# Altium footprint library PAL.PcbLib: 183 footprints (part 3 of 12)
Each footprint in its own frame and in the unit in brackets; x right, y up, seen from the top. Pads: shape width x height; smd on the part's side, far side on the other; paste and mask are expansions set on the pad; w line width, h text height; cw(c..) or ccw(c..) is an arc to the next point about the centre after c.
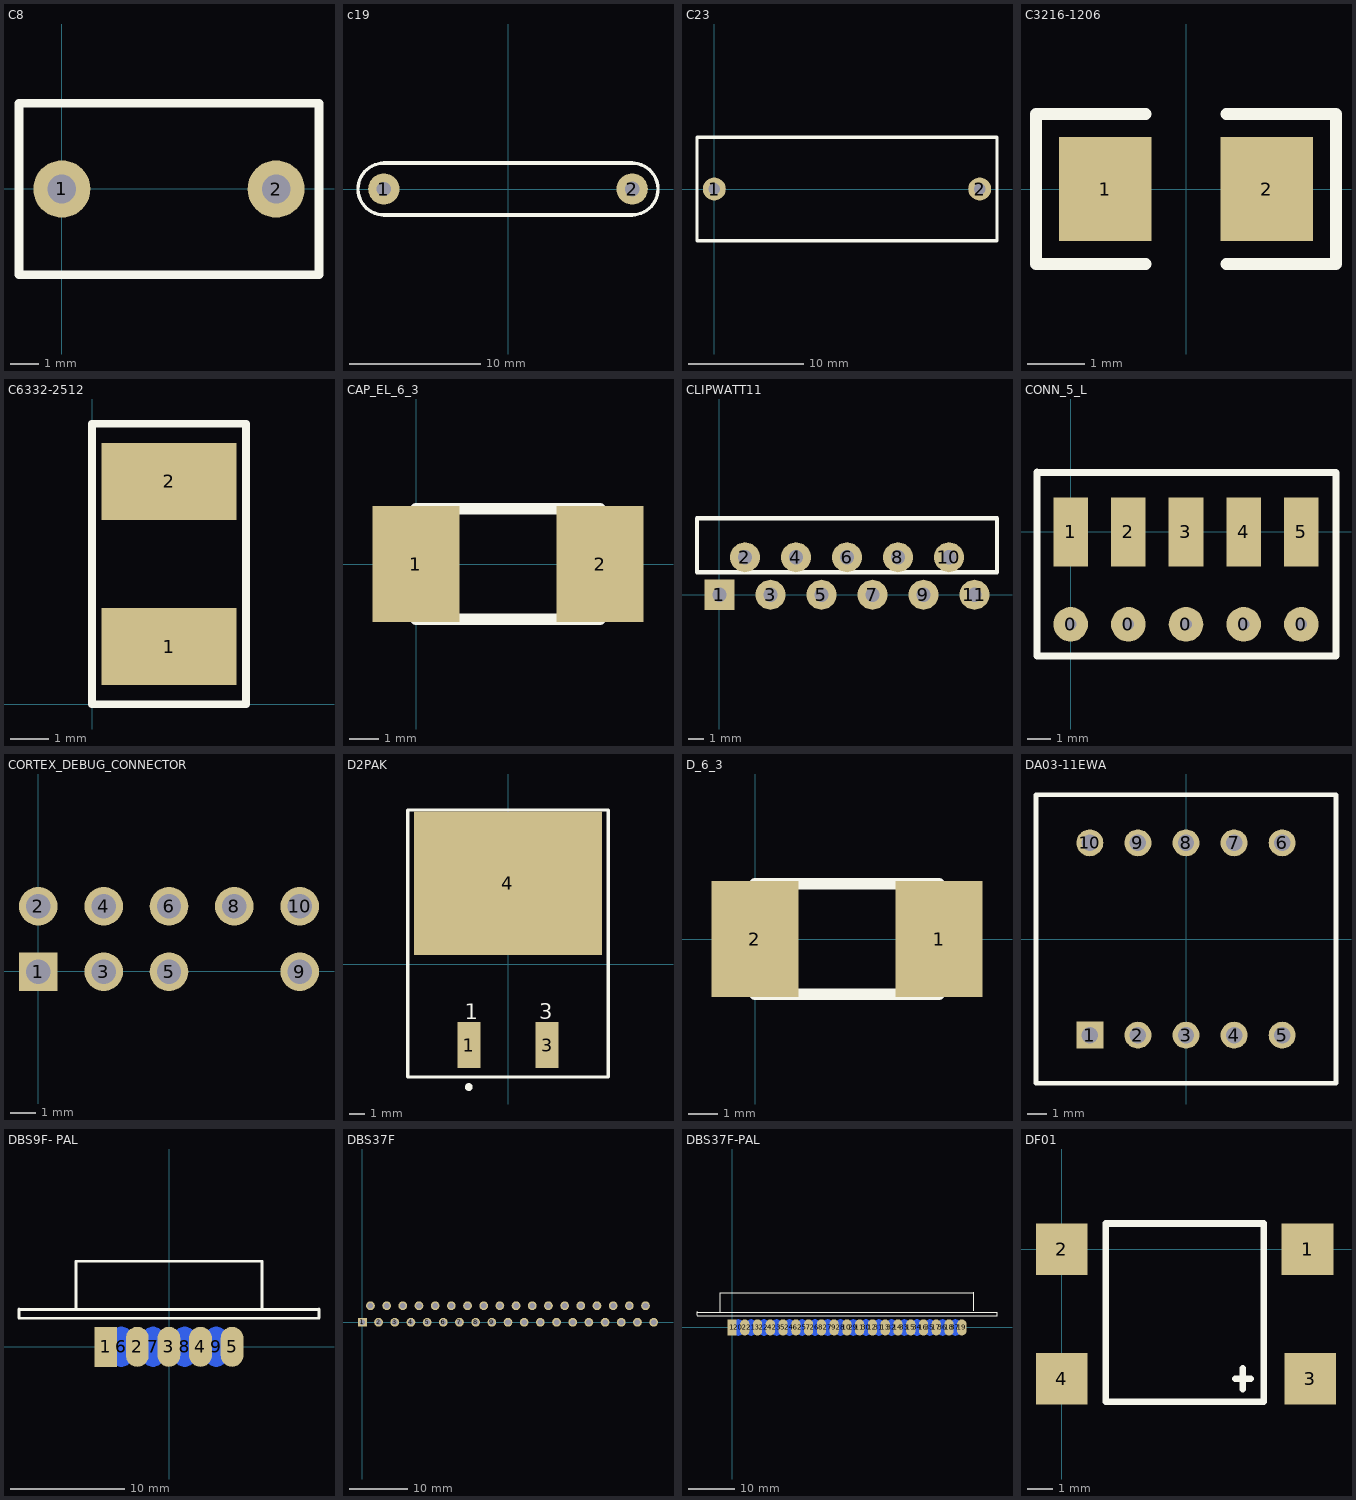
[diagram p2: the footprints below, top view; thin cyan lines are the x and y axes]

## C8 [mm]
pads (2):
  round 2 hole 1: 1(-0.002,-0.008) 2(7.498,-0.008)
Top Overlay:
  lines w0.3: -1.502,-3.008 8.998,-3.008 8.998,2.992 -1.502,2.992 -1.502,-3.008

## c19 [mm]
pads (2):
  round 2.4 hole 1.1: 1(-9.5,0)
  round 2.4 hole 1.11: 2(9.5,0)
Top Overlay:
  lines w0.254: -9.5,1.978 ccw(c-9.5,0) -9.475,-1.977 ; 9.475,1.977 cw(c9.5,0) 9.5,-1.978
  lines w0.3: -9.5,-2 9.5,-2 ; -9.5,2 9.5,2

## C23 [mm]
pads (2):
  round 2 hole 1: 1(0,0) 2(23,0)
Top Overlay:
  lines w0.3: -1.5,-4.5 -1.5,4.5 24.5,4.5 24.5,-4.5 -1.5,-4.5

## C3216-1206 [mm]
pads (2):
  rect 1.6x1.8 smd: 1(-1.405,0.002) 2(1.395,0.002)
Top Overlay:
  lines w0.2: -0.705,-1.298 -2.605,-1.298 -2.605,1.302 -0.705,1.302 ; 0.695,-1.298 2.595,-1.298 2.595,1.302 0.695,1.302

## C6332-2512 [mm]
pads (2):
  rect 3.5x2 smd: 1(2,1.5) 2(2,5.8)
Top Overlay:
  lines w0.2: 0,0 4,0 4,7.3 0,7.3 0,0

## CAP_EL_6_3 [mm]
pads (2):
  rect 3x4 smd: 1(-0.011,0.006) 2(6.339,0.006)
Top Overlay:
  lines w0.4: 1.259,-1.899 1.259,1.911 ; -0.011,-1.899 -0.011,0.006 -0.011,1.911 6.339,1.911 6.339,-1.899 -0.011,-1.899

## CLIPWATT11 [mm]
pads (11):
  rect 2x2 hole 0.95: 1(0.022,-0.004)
  round 2 hole 0.95: 2(1.722,2.496) 3(3.422,-0.004) 4(5.122,2.496) 5(6.822,-0.004) 6(8.522,2.496) 7(10.222,-0.004) 8(11.922,2.496) 9(13.622,-0.004) 10(15.322,2.496) 11(17.022,-0.004)
Top Overlay:
  lines w0.3: -1.478,1.496 -1.478,5.096 8.522,5.096 18.522,5.096 18.522,1.496 -1.478,1.496

## CONN_5_L [mm]
pads (10):
  round 1.5 on Top hole 0.5: 0(0,-4) 0(2.5,-4) 0(5,-4) 0(7.5,-4) 0(10,-4)
  rect 1.5x3 smd: 1(0,0) 2(2.5,0) 3(5,0) 4(7.5,0) 5(10,0)
Top Overlay:
  lines w0.3: -1.45,2.575 -1.45,-5.375 11.5,-5.375 11.5,2.575 -1.425,2.575 -1.45,2.6

## CORTEX_DEBUG_CONNECTOR [mm]
pads (9):
  rect 1.5x1.5 hole 0.95: 1(0.001,-0.012)
  round 1.5 hole 0.95: 2(0.001,2.528) 3(2.541,-0.012) 4(2.541,2.528) 5(5.081,-0.012) 6(5.081,2.528) 8(7.621,2.528) 9(10.161,-0.012) 10(10.161,2.528)

## D2PAK [mm]
pads (3):
  rect 1.5x3 smd: 1(-2.558,-5.253) 3(2.522,-5.253)
  rect 12.2x9.3 smd: 4(-0.018,5.247)
Top Overlay:
  circle w0.25: c-2.558,-7.978 r0.125
  lines w0.2: -6.518,-7.328 -6.518,9.998 6.482,9.998 6.482,-7.328 -6.518,-7.328
  text "1" at -2.808,-3.578 h1
  text "3" at 2.014,-3.578 h1

## D_6_3 [mm]
pads (2):
  rect 3x4 smd: 1(6.341,0.006) 2(-0.009,0.006)
Top Overlay:
  lines w0.4: 1.261,-1.899 1.261,1.911 ; -0.009,-1.899 -0.009,0.006 -0.009,1.911 6.341,1.911 6.341,-1.899 -0.009,-1.899

## DA03-11EWA [mm]
pads (10):
  rect 1.4x1.4 hole 0.85: 1(-5,-5)
  round 1.4 hole 0.85: 2(-2.5,-5) 3(0,-5) 4(2.5,-5) 5(5,-5) 6(5,5) 7(2.5,5) 8(0,5) 9(-2.5,5) 10(-5,5)
Top Overlay:
  lines w0.254: -7.8,-7.5 7.8,-7.5 7.8,7.5 -7.8,7.5 -7.8,-7.5

## DBS9F- PAL [mm]
pads (9):
  rect 2x3.5 smd: 1(-5.55,0)
  oval 2x3.5 smd: 2(-2.78,0) 3(-0.01,0) 4(2.76,0) 5(5.53,0)
  oval 2x3.5 smd far side: 6(-4.17,0) 7(-1.4,0) 8(1.37,0) 9(4.14,0)
Top Overlay:
  lines w0.25: -8.15,3.3 -8.15,7.475 -8.125,7.5 ; -8.15,7.5 0,7.5 8.15,7.5 ; 8.125,7.5 8.15,7.475 8.15,3.3 ; -13.15,2.525 -13.15,3.3 -13.125,3.275 0,3.275 13.125,3.275 13.15,3.3 13.15,2.525 13.125,2.5 0,2.5 -13.125,2.5 -13.15,2.525
  lines w0.254: -8.15,3.4 -8.15,7.5 ; 8.15,3.4 8.15,7.5

## DBS37F [mm]
pads (37):
  rect 1.5x1.5 hole 0.95: 1(0,0)
  round 1.5 hole 0.95: 2(2.77,0) 3(5.54,0) 4(8.31,0) 5(11.08,0) 6(13.85,0) 7(16.62,0) 8(19.39,0) 9(22.16,0) 10(24.93,0) 11(27.7,0) 12(30.47,0) 13(33.24,0) 14(36.01,0) 15(38.78,0) 16(41.55,0) 17(44.32,0) 18(47.09,0) 19(49.86,0) 20(1.38,2.84) 21(4.15,2.84) 22(6.92,2.84) 23(9.69,2.84) 24(12.46,2.84) 25(15.23,2.84) 26(18,2.84) 27(20.77,2.84) 28(23.54,2.84) 29(26.31,2.84) 30(29.08,2.84) 31(31.85,2.84) 32(34.62,2.84) 33(37.39,2.84) 34(40.16,2.84) 35(42.93,2.84) 36(45.7,2.84) 37(48.47,2.84)

## DBS37F-PAL [mm]
pads (37):
  rect 2x3.5 smd: 1(0,0)
  oval 2x3.5 smd: 2(2.77,0) 3(5.54,0) 4(8.31,0) 5(11.08,0) 6(13.85,0) 7(16.62,0) 8(19.39,0) 9(22.16,0) 10(24.93,0) 11(27.7,0) 12(30.47,0) 13(33.24,0) 14(36.01,0) 15(38.78,0) 16(41.55,0) 17(44.32,0) 18(47.09,0) 19(49.86,0)
  oval 2x3.5 smd far side: 20(1.38,0) 21(4.15,0) 22(6.92,0) 23(9.69,0) 24(12.46,0) 25(15.23,0) 26(18,0) 27(20.77,0) 28(23.54,0) 29(26.31,0) 30(29.08,0) 31(31.85,0) 32(34.62,0) 33(37.39,0) 34(40.16,0) 35(42.93,0) 36(45.7,0) 37(48.47,0)
Top Overlay:
  lines w0.254: -7.6,2.6 -7.6,3.4 -7.5,3.3 57.5,3.3 57.5,2.5 -7.5,2.5 ; -2.6,3.4 -2.6,7.5 52.4,7.5 52.5,7.6 52.5,3.6

## DF01 [mm]
pads (4):
  rect 2x2 smd: 1(9.496,0.002) 2(-0.004,0.002) 3(9.596,-4.998) 4(-0.004,-4.998)
Top Overlay:
  lines w0.254: 6.696,-4.998 7.296,-4.998 ; 6.996,-5.398 6.996,-4.598 ; 1.696,-5.898 7.796,-5.898 7.796,1.002 1.696,1.002 1.696,-5.898